# Altium footprint library Capacitors.PcbLib: 43 footprints (part 1 of 3)
Each footprint in its own frame and in the unit in brackets; x right, y up, seen from the top. Pads: shape width x height; smd on the part's side, far side on the other; paste and mask are expansions set on the pad; w line width, h text height; cw(c..) or ccw(c..) is an arc to the next point about the centre after c.
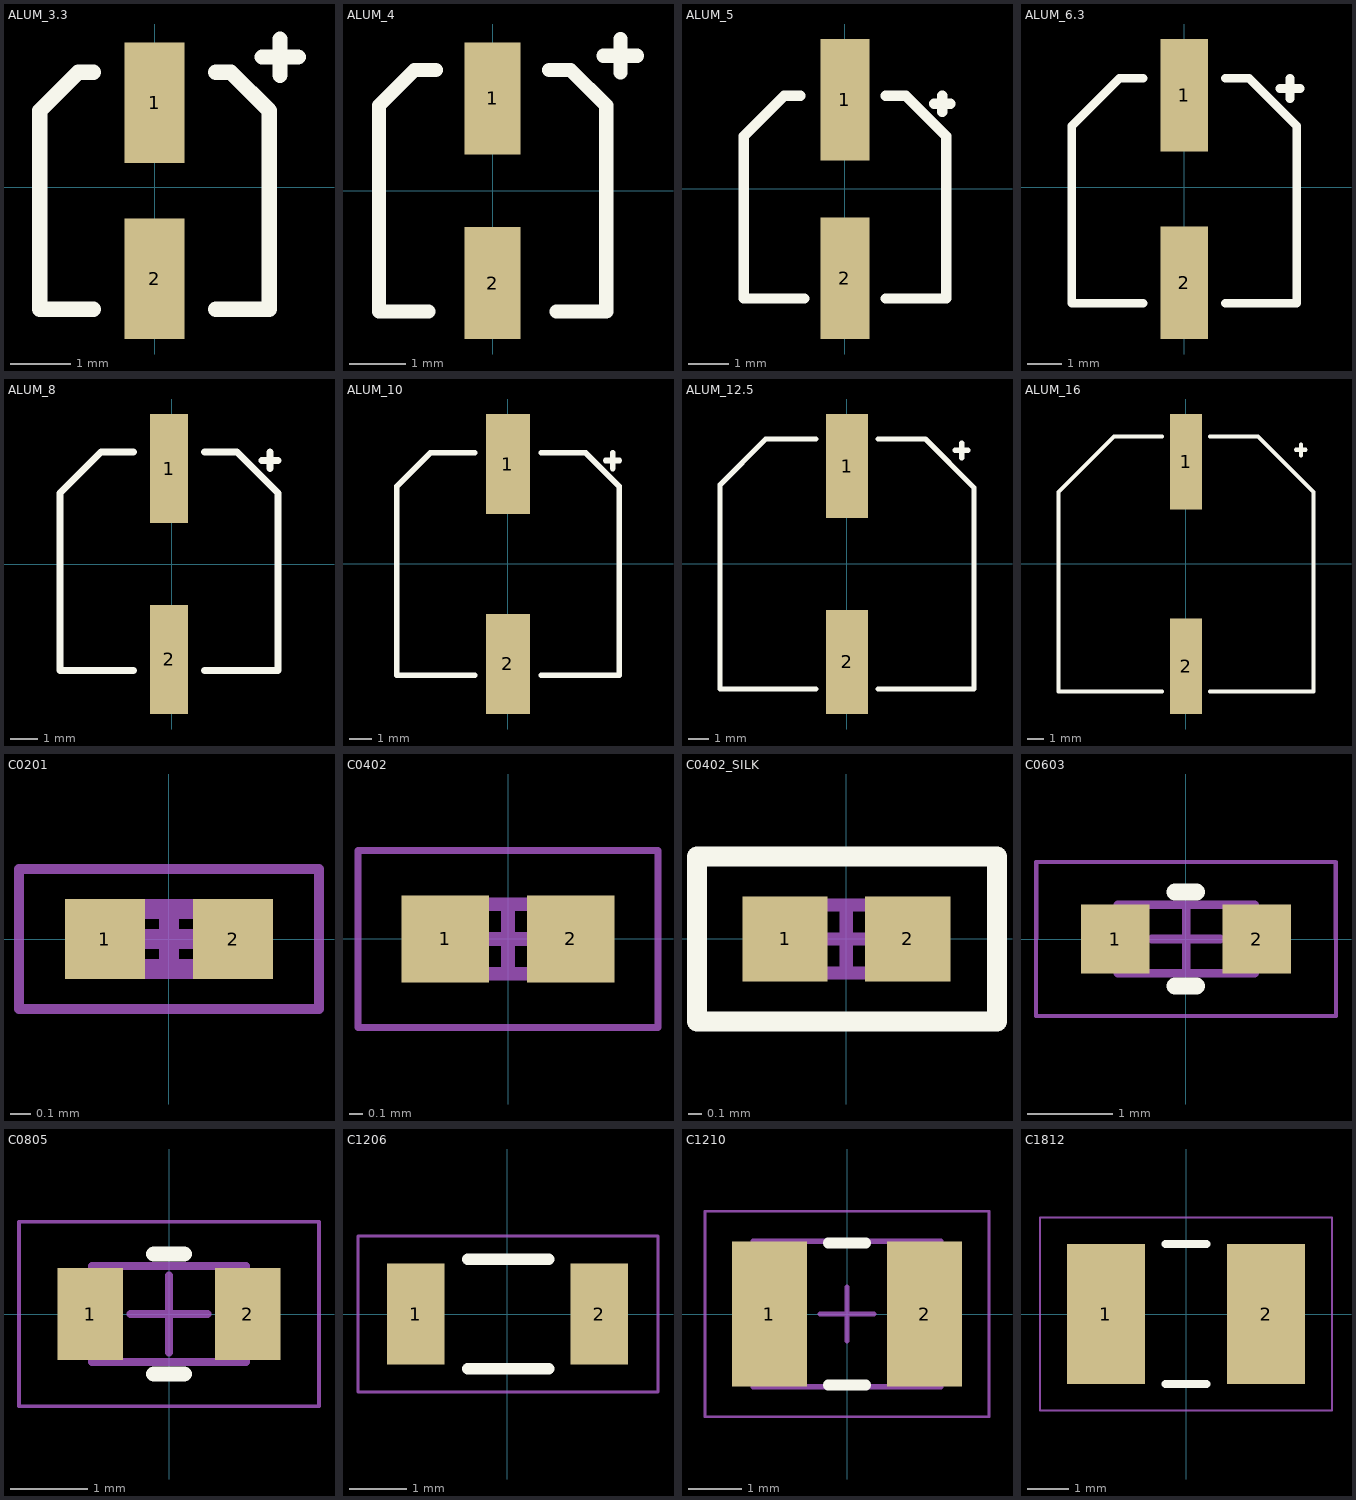
[diagram p0: the footprints below, top view; thin cyan lines are the x and y axes]

## ALUM_3.3 [mm]
height 5.4
pads (2):
  rect 1x2 smd: 1(0,1.397) 2(0,-1.524)
Top Overlay:
  lines w0.254: -1.901,1.274 -1.27,1.905 ; -1.016,-2.032 -1.018,-2.03 -1.905,-2.03 -1.905,1.27 -1.27,1.905 ; -1.016,1.905 -1.27,1.905 ; 1.016,-2.03 1.905,-2.03 1.905,1.27 1.27,1.905 ; 1.016,1.905 1.27,1.905 ; 1.784,2.159 2.384,2.159 ; 1.901,1.274 1.27,1.905 ; 2.084,1.859 2.084,2.459
3D body "User Library-UWT1C100MCL1GB.step": height 5.63, standoff 0.2, extent -2.159,-2.3 2.141,2.3

## ALUM_4 [mm]
height 5.4
pads (2):
  rect 1x2 smd: 1(0,1.651) 2(0,-1.651)
Top Overlay:
  lines w0.254: -1.143,-2.159 -2.032,-2.159 -2.032,0.635 -2.032,1.524 -1.397,2.159 -1.016,2.159 ; 1.016,2.159 1.397,2.159 2.032,1.524 2.032,-2.159 1.143,-2.159 ; 1.986,2.413 2.586,2.413 ; 2.286,2.113 2.286,2.713
3D body "User Library-UWT1C100MCL1GB.step": height 5.63, standoff 0.2, extent -2.159,-2.3 2.141,2.3

## ALUM_5 [mm]
height 5
pads (2):
  rect 1.2x3 smd: 1(0,2.2) 2(0,-2.2)
Top Overlay:
  lines w0.254: -1.1,2.3 -1.5,2.3 -2.5,1.3 -2.5,-2.7 -1,-2.7 ; 1,-2.7 2.5,-2.7 2.5,1.3 1.5,2.3 1,2.3 ; 2.2,2.1 2.6,2.1 ; 2.4,1.9 2.4,2.3
3D body "User Library-SMD Polymer Aluminum Electrolytic Capacitors B6 47uF 6,3V.step": height 5.9, standoff -0.05, extent -2.65,-3.2 2.65,2.8

## ALUM_6.3 [mm]
height 7
pads (2):
  rect 1.4x3.3 smd: 1(0,2.7) 2(0,-2.8)
Top Overlay:
  lines w0.254: -1.2,-3.4 -3.3,-3.4 -3.3,1.8 -1.9,3.2 -1.2,3.2 ; 1.2,-3.4 3.3,-3.4 3.3,1.8 1.9,3.2 1.2,3.2 ; 2.8,2.9 3.4,2.9 ; 3.1,2.6 3.1,3.2
3D body "Capacitors C6 120uF 6 3V.step": height 5.9, standoff -0.05, extent -3.3,-3.65 3.3,3.65

## ALUM_8 [mm]
height 10
pads (2):
  rect 1.4x4 smd: 1(-0.1,3.5) 2(-0.1,-3.5)
Top Overlay:
  lines w0.254: -1.4,-3.9 -4.1,-3.9 -4.1,2.6 -2.6,4.1 -1.4,4.1 ; 1.2,-3.9 3.9,-3.9 3.9,2.6 2.4,4.1 1.2,4.1 ; 3.3,3.8 3.9,3.8 ; 3.6,3.5 3.6,4.1
3D body "Electrolytic SMD - C.step": height 5.8, standoff 0, extent -3.4,-3.7 3.2,3.5

## ALUM_10 [mm]
height 8
pads (2):
  rect 2x4.5 smd: 1(0,4.5) 2(0,-4.5)
Top Overlay:
  lines w0.254: -1.5,-5 -5,-5 -5,3.5 -3.5,5 -1.5,5 ; 1.5,-5 5,-5 5,3.5 3.5,5 1.5,5 ; 4.4,4.66 5,4.66 ; 4.71,4.3 4.71,5
3D body "Electrolytic SMD - F.step": height 10.8, standoff 0, extent -5.25,-5.5 5.05,5.5

## ALUM_12.5 [mm]
height 13.5
pads (2):
  rect 2x5 smd: 1(0,4.7) 2(0,-4.7)
Top Overlay:
  lines w0.254: -1.5,-6 -6.1,-6 -6.1,3.8 -3.9,6 -1.5,6 ; 1.5,-6 6.1,-6 6.1,3.66 3.76,6 ; 1.5,6 3.66,6 ; 5.2,5.46 5.8,5.46 ; 5.51,5.1 5.51,5.8
3D body "Electrolytic SMD - F.step": height 10.5, standoff -0.3, extent -5.15,-5.5 5.15,5.5

## ALUM_16 [mm]
height 16.5
pads (2):
  rect 2x6 smd: 1(0,6.4) 2(0,-6.4)
Top Overlay:
  lines w0.254: -1.5,-8 -8,-8 -8,4.5 -4.5,8 -1.5,8 ; 1.5,-8 8,-8 8,4.5 4.5,8 1.5,8 ; 6.9,7.16 7.5,7.16 ; 7.21,6.8 7.21,7.5

## C0201 [mm] "Chip Capacitor, 2-Leads, Body 0.60x0.30mm, IPC Medium Density"
height 0.3
pads (2):
  rect 0.4x0.4 smd mask+0.05: 1(-0.32,0) 2(0.32,0)
Mechanical 13:
  lines w0.1: -0.3,-0.15 -0.3,0.15 0.3,0.15 0.3,-0.15 -0.3,-0.15
Mechanical 15:
  lines w0.05: -0.75,-0.35 -0.75,0.35 0.75,0.35 0.75,-0.35 -0.75,-0.35
  lines w0.1: -0.15,0 0.15,0 ; 0,-0.15 0,0.15
3D body "C0201.step": height 0.3, standoff 0, extent -0.3,-0.15 0.3,0.15

## C0402 [mm] "Chip Capacitor, 2-Leads, Body 1.00x0.50mm, IPC Medium Density"
height 0.5
pads (2):
  rect 0.64x0.64 smd mask+0.05: 1(-0.46,0) 2(0.46,0)
Mechanical 13:
  lines w0.1: -0.505,-0.255 -0.505,0.255 0.505,0.255 0.505,-0.255 -0.505,-0.255
Mechanical 15:
  lines w0.05: -1.1,-0.65 -1.1,0.65 1.1,0.65 1.1,-0.65 -1.1,-0.65
  lines w0.1: -0.255,0 0.255,0 ; 0,-0.255 0,0.255
3D body "C0402_1.step": height 0.5, standoff 0, extent -0.505,-0.255 0.505,0.255

## C0402_SILK [mm] "Chip Capacitor, 2-Leads, Body 1.00x0.50mm, IPC Medium Density"
height 0.5
pads (2):
  rect 0.64x0.64 smd mask+0.05: 1(-0.46,0) 2(0.46,0)
Top Overlay:
  lines w0.15: -1.12,-0.62 -1.12,0.62 1.13,0.62 1.13,-0.62 -1.12,-0.62
Mechanical 13:
  lines w0.1: -0.505,-0.255 0.505,-0.255 0.505,0.255 -0.505,0.255 -0.505,-0.255
Mechanical 15:
  lines w0.05: -1.1,-0.65 1.1,-0.65 1.1,0.65 -1.1,0.65 -1.1,-0.65
  lines w0.1: -0.255,0 0.255,0 ; 0,-0.255 0,0.255
3D body "C0402_1.step": height 0.5, standoff 0, extent -0.505,-0.255 0.505,0.255

## C0603 [mm] "Chip Capacitor, 2-Leads, Body 1.60x0.80mm, IPC Medium Density"
height 0.8
pads (2):
  rect 0.8x0.8 smd mask+0.05: 1(-0.823,0) 2(0.827,0)
Top Overlay:
  lines w0.2: -0.128,-0.55 0.122,-0.55 ; -0.128,0.55 0.122,0.55
Mechanical 13:
  lines w0.1: -0.798,-0.4 -0.798,0.4 0.802,0.4 0.802,-0.4 -0.798,-0.4
Mechanical 15:
  lines w0.05: -1.75,0.9 1.75,0.9 1.752,-0.9 ; -1.748,0.9 -1.75,-0.9 1.75,-0.9
  lines w0.1: -0.398,0 0.402,0 ; 0.002,-0.4 0.002,0.4
3D body "C0603_.step": height 0.8, standoff 0, extent -0.798,-0.4 0.802,0.4

## C0805 [mm] "Chip Capacitor, 2-Leads, Body 2.00x1.25mm, IPC Medium Density"
height 1.25
pads (2):
  rect 0.85x1.2 smd mask+0.05: 1(-1.025,0) 2(1.025,0)
Top Overlay:
  lines w0.2: -0.2,-0.78 0.2,-0.78 ; -0.2,0.78 0.2,0.78
Mechanical 13:
  lines w0.1: -1,-0.625 1,-0.625 1,0.625 -1,0.625 -1,-0.625
Mechanical 15:
  lines w0.05: -1.95,-1.2 1.95,-1.2 1.95,1.2 -1.95,1.2 -1.95,-1.2
  lines w0.1: -0.5,0 0.5,0 ; 0,-0.5 0,0.5
3D body "C0805_.step": height 1.25, standoff 0, extent -1,-0.625 1,0.625

## C1206 [mm]
pads (2):
  rect 1x1.75 smd: 1(-1.58,0) 2(1.595,0)
Top Overlay:
  lines w0.2: -0.68,-0.95 0.72,-0.95 ; -0.68,0.95 0.72,0.95
Mechanical 15:
  lines w0.05: -2.58,-1.35 2.613,-1.35 2.613,1.35 -2.58,1.35 -2.58,-1.35
3D body "User Library-Vhip cap 1206.step": height 1.77, standoff 0.03, extent -1.656,-0.85 1.544,0.85

## C1210 [mm] "Chip Capacitor, 2-Leads, Body 3.30x2.65mm, IPC Medium Density"
height 1.5
pads (2):
  rect 1.4x2.7 smd mask+0.05: 1(-1.45,0) 2(1.45,0)
Top Overlay:
  lines w0.2: -0.35,-1.325 0.35,-1.325 ; -0.35,1.325 0.35,1.325
Mechanical 13:
  lines w0.1: -1.75,-1.36 -1.75,1.36 1.75,1.36 1.75,-1.36 -1.75,-1.36
Mechanical 15:
  lines w0.05: -2.65,-1.92 -2.65,1.92 2.65,1.92 2.65,-1.92 -2.65,-1.92
  lines w0.1: -0.5,0 0.5,0 ; 0,-0.5 0,0.5
3D body "c1210c105k1ractu.stp": height 1.94, standoff 0.04, extent -1.7,-1.35 1.7,1.35

## C1812 [mm]
pads (2):
  rect 1.9x3.4 smd: 1(-1.95,0) 2(1.95,0)
Top Overlay:
  lines w0.2: -0.5,-1.7 0.5,-1.7 ; -0.5,1.7 0.5,1.7
Mechanical 15:
  lines w0.05: -3.55,-2.35 -3.55,2.35 3.55,2.35 3.55,-2.35 -3.55,-2.35